# Altium footprint library DIP-CN  0607.PcbLib: 329 footprints (part 11 of 21)
Each footprint in its own frame and in the unit in brackets; x right, y up, seen from the top. Pads: shape width x height; smd on the part's side, far side on the other; paste and mask are expansions set on the pad; w line width, h text height; cw(c..) or ccw(c..) is an arc to the next point about the centre after c.
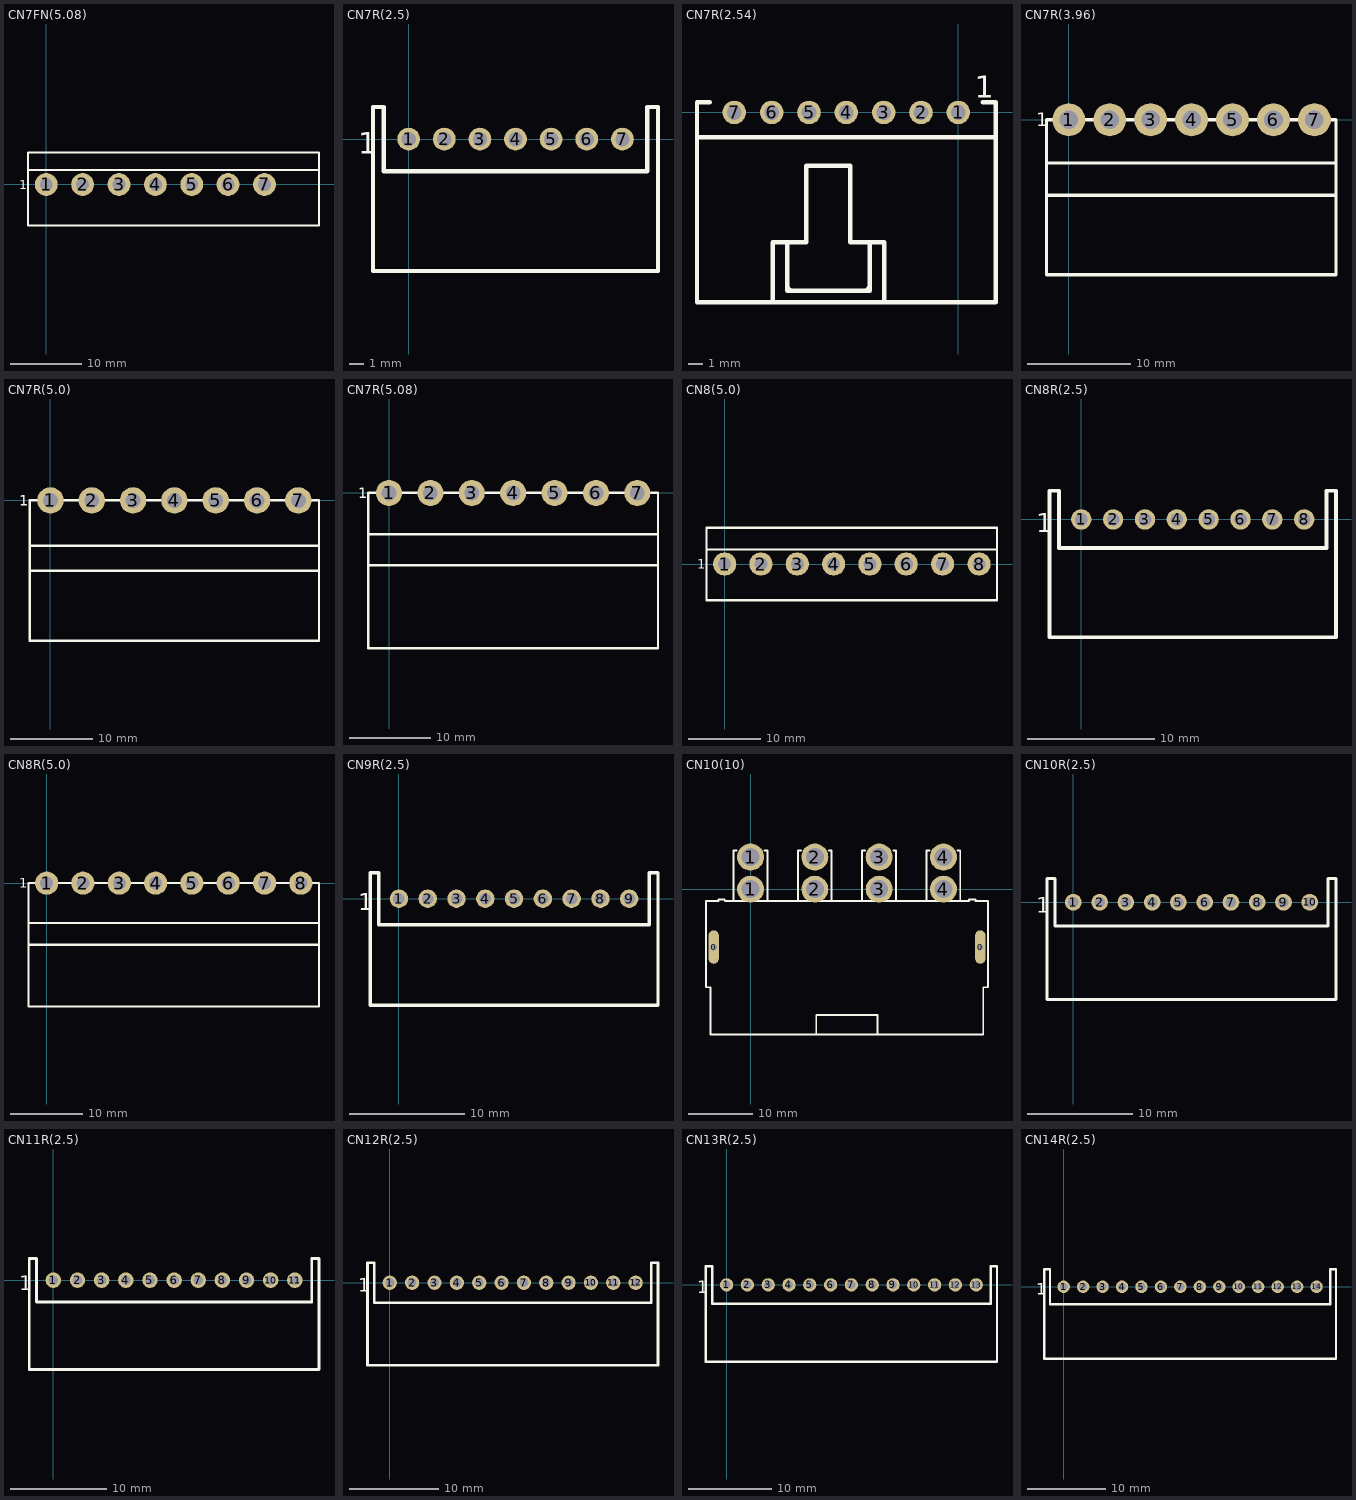
[diagram p10: the footprints below, top view; thin cyan lines are the x and y axes]

## CN7FN(5.08) [mm]
pads (7):
  round 3.2 hole 1.8: 1(0,0) 2(5.08,0) 3(10.16,0) 4(15.24,0) 5(20.32,0) 6(25.4,0) 7(30.48,0)
TopOverlay:
  lines w0.3: -2.54,-5.715 38.1,-5.715 38.1,4.445 -2.54,4.445 -2.54,-5.635 ; -2.54,2.01 38.078,2.01
  text "1" at -3.81,-0.635 h1.3

## CN7R(2.5) [mm]
pads (7):
  round 1.6 hole 1: 1(0,0) 2(2.5,0) 3(5,0) 4(7.5,0) 5(10,0) 6(12.5,0) 7(15,0)
TopOverlay:
  lines w0.3: -2.5,-9.25 -2.5,2.25 -1.75,2.25 -1.75,-2.25 16.75,-2.25 16.75,2.25 17.5,2.25 17.5,-9.25 -2.5,-9.25
  text "1" at -3.556,-1.016 h1.5
BottomOverlay:
  lines w0.3: 1.23,-1.27 1.23,1.27 ; 3.73,-1.27 3.73,1.27 ; 6.23,-1.27 6.23,1.27 ; 8.73,-1.27 8.73,1.27 ; 11.23,-1.27 11.23,1.27 ; 13.73,-1.27 13.73,1.27

## CN7R(2.54) [mm]
pads (7):
  round 1.6 hole 1: 1(0,0) 2(-2.54,0) 3(-5.08,0) 4(-7.62,0) 5(-10.16,0) 6(-12.7,0) 7(-15.24,0)
TopOverlay:
  lines w0.2: -11.64,-11.624 ccw(c-11.14,-11.624) -11.14,-12.124 ; -6.54,-12.124 ccw(c-6.54,-11.624) -6.04,-11.624
  lines w0.3: -17.68,-1.7 -15.191,-1.7 -10.12,-1.7 2.5,-1.7 ; -16.91,0.68 -17.78,0.68 -17.78,-12.92 -15.24,-12.92 2.54,-12.92 2.54,0.68 1.67,0.68 ; -12.64,-12.824 -12.64,-10.124 -12.64,-8.824 -11.64,-8.824 ; -5.04,-12.824 -5.04,-8.824 -6.04,-8.824 ; -11.64,-8.824 -11.64,-12.124 -6.04,-12.124 -6.04,-8.824 ; -11.64,-8.824 -10.34,-8.824 -10.34,-3.624 -7.34,-3.624 -7.34,-8.824 -6.04,-8.824
  text "1" at 1.13,1 h1.5
BottomOverlay:
  lines w0.3: -13.97,-0.813 -13.97,0.787 ; -11.43,-0.813 -11.43,0.787 ; -8.89,-0.813 -8.89,0.787 ; -6.35,-0.813 -6.35,0.787 ; -3.81,-0.813 -3.81,0.787 ; -1.27,-0.813 -1.27,0.787

## CN7R(3.96) [mm]
pads (7):
  round 3.2 hole 1.8: 1(0,0) 2(3.96,0) 3(7.92,0) 4(11.88,0) 5(15.84,0) 6(19.8,0) 7(23.76,0)
TopOverlay:
  lines w0.3: -2.149,-7.3 25.851,-7.3 ; -2.149,-4.2 25.851,-4.2 ; -2.149,0 -2.149,-15 25.851,-15 25.851,0 -2.093,0
  text "1" at -3.175,-0.635 h1.3

## CN7R(5.0) [mm]
pads (7):
  round 3.2 hole 1.8: 1(0,0) 2(5,0) 3(10,0) 4(15,0) 5(20,0) 6(25,0) 7(30,0)
TopOverlay:
  lines w0.3: -2.5,-8.5 32.5,-8.5 ; -2.5,-5.5 32.5,-5.5 ; -2.5,-17 -2.5,0 32.5,0 32.5,-17 -2.5,-17
  text "1" at -3.81,-0.635 h1.3

## CN7R(5.08) [mm]
pads (7):
  round 3.2 hole 1.8: 1(0,0) 2(5.08,0) 3(10.16,0) 4(15.24,0) 5(20.32,0) 6(25.4,0) 7(30.48,0)
TopOverlay:
  lines w0.3: -2.54,-8.89 33.02,-8.89 ; -2.54,-5.08 33.02,-5.08 ; -2.54,-19.05 -2.54,0 33.02,0 33.02,-19.05 -2.54,-19.05
  text "1" at -3.81,-0.635 h1.3

## CN8(5.0) [mm]
pads (8):
  round 3.2 hole 1.8: 1(0,0) 2(5,0) 3(10,0) 4(15,0) 5(20,0) 6(25,0) 7(30,0) 8(35.028,0)
TopOverlay:
  lines w0.3: -2.5,2 37.5,2 ; -2.5,-5 37.5,-5 37.5,5 -2.5,5 -2.5,-5
  text "1" at -3.81,-0.635 h1.3

## CN8R(2.5) [mm]
pads (8):
  round 1.6 hole 1: 1(0,0) 2(2.5,0) 3(5,0) 4(7.5,0) 5(10,0) 6(12.5,0) 7(15,0) 8(17.5,0)
TopOverlay:
  lines w0.3: -2.5,-9.25 -2.5,2.25 -1.75,2.25 -1.75,-2.25 19.25,-2.25 19.25,2.25 20,2.25 20,-9.25 -2.5,-9.25
  text "1" at -3.556,-1.016 h1.5
BottomOverlay:
  lines w0.3: 1.23,-1.27 1.23,1.27 ; 3.73,-1.27 3.73,1.27 ; 6.23,-1.27 6.23,1.27 ; 8.73,-1.27 8.73,1.27 ; 11.23,-1.27 11.23,1.27 ; 13.73,-1.27 13.73,1.27 ; 16.23,-1.27 16.23,1.27

## CN8R(5.0) [mm]
pads (8):
  round 3.2 hole 1.8: 1(0,0) 2(5,0) 3(10,0) 4(15,0) 5(20,0) 6(25,0) 7(30,0) 8(35,0)
TopOverlay:
  lines w0.3: -2.5,-8.5 37.5,-8.5 ; -2.5,-5.5 37.5,-5.5 ; -2.5,-17 37.5,-17 37.5,0 -2.5,0 -2.5,-17
  text "1" at -3.81,-0.635 h1.3

## CN9R(2.5) [mm]
pads (9):
  round 1.6 hole 1: 1(0,0) 2(2.5,0) 3(5,0) 4(7.5,0) 5(10,0) 6(12.5,0) 7(15,0) 8(17.5,0) 9(20,0)
TopOverlay:
  lines w0.3: -2.5,-9.25 22.5,-9.25 22.5,2.25 21.75,2.25 21.75,-2.25 -1.75,-2.25 -1.75,2.25 -2.5,2.25 -2.5,-9.25
  text "1" at -3.556,-1.016 h1.5
BottomOverlay:
  lines w0.3: 1.23,-1.27 1.23,1.27 ; 3.73,-1.27 3.73,1.27 ; 6.23,-1.27 6.23,1.27 ; 8.73,-1.27 8.73,1.27 ; 11.23,-1.27 11.23,1.27 ; 13.73,-1.27 13.73,1.27 ; 16.23,-1.27 16.23,1.27 ; 18.73,-1.27 18.73,1.27

## CN10(10) [mm]
pads (10):
  oval 1.6x5.2 hole 1: 0(-5.73,-9) 0(35.73,-9)
  round 4.2 hole 2.8: 1(0,0) 1(0,5) 2(10,0) 2(10,5) 3(20,0) 3(20,5) 4(30,0) 4(30,5)
TopOverlay:
  lines w0.3: -2.635,-1.85 -2.635,6 -2.175,6 ; 2.2,6 2.615,6 2.615,-1.85 ; 7.365,-1.85 7.365,6 7.825,6 ; 10.218,-22.6 10.218,-19.6 19.762,-19.6 19.762,-22.6 ; 12.2,6 12.615,6 12.615,-1.85 ; 17.365,-1.85 17.365,6 17.825,6 ; 22.2,6 22.615,6 22.615,-1.85 ; 27.365,-1.85 27.365,6 27.825,6 ; 32.2,6 32.615,6 32.615,-1.85 ; 34.99,-1.85 34.99,-1.6 33.99,-1.6 33.99,-1.85 -4.01,-1.85 -4.01,-1.6 -5.01,-1.6 -5.01,-1.85 -6.92,-1.85 -6.92,-15.253 -6.21,-15.253 -6.21,-22.6 36.19,-22.6 36.19,-15.253 36.9,-15.253 36.9,-1.85 35,-1.85
Mechanical2:
  circle w0.127: c-0.01,5 r1.4
  circle w0.127: c-0.01,0 r1.4
  circle w0.127: c10.075,5 r1.4
  circle w0.127: c9.99,0 r1.4
  circle w0.127: c29.99,5 r1.4
DrillDrawing:
  lines w0.2: -6.23,-10.1 ccw(c-5.73,-10.1) -5.23,-10.1 ; -6.23,-7.9 cw(c-5.73,-7.9) -5.23,-7.9 ; 35.23,-10.1 ccw(c35.73,-10.1) 36.23,-10.1 ; 35.23,-7.9 cw(c35.73,-7.9) 36.23,-7.9
  lines w0.3: -6.23,-10.1 -6.23,-7.9 ; -6.03,-9 -5.73,-9 ; -5.73,-10 -5.73,-9 ; -5.73,-8 -5.73,-9 ; -5.43,-9 -5.73,-9 ; -5.23,-10.1 -5.23,-7.9 ; 35.23,-10.1 35.23,-7.9 ; 35.43,-9 35.73,-9 ; 35.73,-10 35.73,-9 ; 35.73,-8 35.73,-9 ; 36.03,-9 35.73,-9 ; 36.23,-10.1 36.23,-7.9
  text "3.2X1.0mm" at -6.56,-13.759 h1.3
  text "3.2X1.0mm" at 34.9,-13.759 h1.3

## CN10R(2.5) [mm]
pads (10):
  round 1.6 hole 1: 1(0,0) 2(2.5,0) 3(5,0) 4(7.5,0) 5(10,0) 6(12.5,0) 7(15,0) 8(17.5,0) 9(20,0) 10(22.5,0)
TopOverlay:
  lines w0.3: -2.5,-9.25 -2.5,2.25 -1.75,2.25 -1.75,-2.25 24.25,-2.25 24.25,2.25 25,2.25 25,-9.25 -2.5,-9.25
  text "1" at -3.556,-1.016 h1.5
BottomOverlay:
  lines w0.3: 1.23,-1.27 1.23,1.27 ; 3.73,-1.27 3.73,1.27 ; 6.23,-1.27 6.23,1.27 ; 8.73,-1.27 8.73,1.27 ; 11.23,-1.27 11.23,1.27 ; 13.73,-1.27 13.73,1.27 ; 16.23,-1.27 16.23,1.27 ; 18.73,-1.27 18.73,1.27 ; 21.23,-1.27 21.23,1.27

## CN11R(2.5) [mm]
pads (11):
  round 1.6 hole 1: 1(0,0) 2(2.5,0) 3(5,0) 4(7.5,0) 5(10,0) 6(12.5,0) 7(15,0) 8(17.5,0) 9(20,0) 10(22.5,0) 11(25,0)
TopOverlay:
  lines w0.3: -2.5,-9.25 -2.5,2.25 -1.75,2.25 -1.75,-2.25 26.75,-2.25 26.75,2.25 27.5,2.25 27.5,-9.25 -2.5,-9.25
  text "1" at -3.556,-1.016 h1.5
BottomOverlay:
  lines w0.3: 1.23,-1.27 1.23,1.27 ; 3.73,-1.27 3.73,1.27 ; 6.23,-1.27 6.23,1.27 ; 8.73,-1.27 8.73,1.27 ; 11.23,-1.27 11.23,1.27 ; 13.73,-1.27 13.73,1.27 ; 16.23,-1.27 16.23,1.27 ; 18.73,-1.27 18.73,1.27 ; 21.23,-1.27 21.23,1.27 ; 23.73,-1.27 23.73,1.27

## CN12R(2.5) [mm]
pads (12):
  round 1.6 hole 1: 1(0,0) 2(2.5,0) 3(5,0) 4(7.5,0) 5(10,0) 6(12.5,0) 7(15,0) 8(17.5,0) 9(20,0) 10(22.5,0) 11(25,0) 12(27.5,0)
TopOverlay:
  lines w0.3: -2.5,-9.25 -2.5,2.25 -1.75,2.25 -1.75,-2.25 29.25,-2.25 29.25,2.25 30,2.25 30,-9.25 -2.5,-9.25
  text "1" at -3.556,-1.016 h1.5
BottomOverlay:
  lines w0.3: 1.23,-1.27 1.23,1.27 ; 3.73,-1.27 3.73,1.27 ; 6.23,-1.27 6.23,1.27 ; 8.73,-1.27 8.73,1.27 ; 11.23,-1.27 11.23,1.27 ; 13.73,-1.27 13.73,1.27 ; 16.23,-1.27 16.23,1.27 ; 18.73,-1.27 18.73,1.27 ; 21.23,-1.27 21.23,1.27 ; 23.73,-1.27 23.73,1.27 ; 26.23,-1.27 26.23,1.27

## CN13R(2.5) [mm]
pads (13):
  round 1.6 hole 1: 1(0,0) 2(2.5,0) 3(5,0) 4(7.5,0) 5(10,0) 6(12.5,0) 7(15,0) 8(17.5,0) 9(20,0) 10(22.5,0) 11(25,0) 12(27.5,0) 13(30,0)
TopOverlay:
  lines w0.3: -2.5,-9.25 -2.5,2.25 -1.75,2.25 -1.75,-2.25 31.75,-2.25 31.75,2.25 32.5,2.25 32.5,-9.25 -2.5,-9.25
  text "1" at -3.556,-1.016 h1.5
BottomOverlay:
  lines w0.3: 1.23,-1.27 1.23,1.27 ; 3.73,-1.27 3.73,1.27 ; 6.23,-1.27 6.23,1.27 ; 8.73,-1.27 8.73,1.27 ; 11.23,-1.27 11.23,1.27 ; 13.73,-1.27 13.73,1.27 ; 16.23,-1.27 16.23,1.27 ; 18.73,-1.27 18.73,1.27 ; 21.23,-1.27 21.23,1.27 ; 23.73,-1.27 23.73,1.27 ; 26.23,-1.27 26.23,1.27 ; 28.73,-1.27 28.73,1.27

## CN14R(2.5) [mm]
pads (14):
  round 1.6 hole 1: 1(0,0) 2(2.5,0) 3(5,0) 4(7.5,0) 5(10,0) 6(12.5,0) 7(15,0) 8(17.5,0) 9(20,0) 10(22.5,0) 11(25,0) 12(27.5,0) 13(30,0) 14(32.5,0)
TopOverlay:
  lines w0.3: -2.5,-9.25 -2.5,2.25 -1.75,2.25 -1.75,-2.25 34.25,-2.25 34.25,2.25 35,2.25 35,-9.25 -2.5,-9.25
  text "1" at -3.556,-1.016 h1.5
BottomOverlay:
  lines w0.3: 1.23,-1.27 1.23,1.27 ; 3.73,-1.27 3.73,1.27 ; 6.23,-1.27 6.23,1.27 ; 8.73,-1.27 8.73,1.27 ; 11.23,-1.27 11.23,1.27 ; 13.73,-1.27 13.73,1.27 ; 16.23,-1.27 16.23,1.27 ; 18.73,-1.27 18.73,1.27 ; 21.23,-1.27 21.23,1.27 ; 23.73,-1.27 23.73,1.27 ; 26.23,-1.27 26.23,1.27 ; 28.73,-1.27 28.73,1.27 ; 31.23,-1.27 31.23,1.27